# Altium schematic symbol library PowerSupplyModules.SchLib: 1 symbol
Pins are listed as number, name and electrical type; pins without a type are passive.

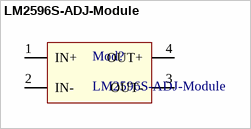
[diagram p0: symbol LM2596S-ADJ-Module]

## LM2596S-ADJ-Module
designator Mod?
LM2596S ADJ DC-DC Step down converter, ready module
footprint LM2596S ADJ Module
pins: 1 IN+, 2 IN-, 3 OUT-, 4 OUT+